# EAGLE library part DSPIC33FJ12GP201-I/P (library Microchip_By_element14_Batch_1)
16-bit Digital Signal Controllers
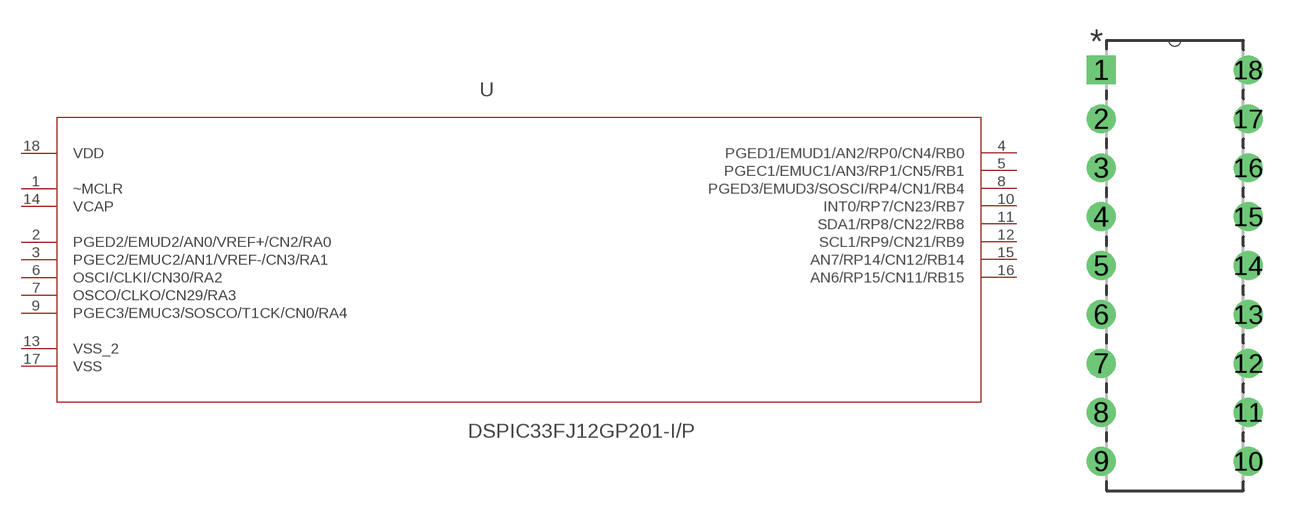
[diagram p368: symbol with the pads of DIP254P762X533-18; footprint DIP254P762X533-18]

Designator prefix -

## DSPIC33FJ12GP201-I/P (DESCRIPTION: DSC, 16BIT, 12KB, 40MHZ, 3.6V; MPN: DSPIC33FJ12GP201-I/P; OC_FARNELL: 1439602; OC_NEWARK: 16M5785; PACKAGE: DIP-18; SUPPLIER: Microchip)  [DIP254P762X533-18]
1  ~MCLR  in
2  PGED2/EMUD2/AN0/VREF+/CN2/RA0
3  PGEC2/EMUC2/AN1/VREF-/CN3/RA1
4  PGED1/EMUD1/AN2/RP0/CN4/RB0
5  PGEC1/EMUC1/AN3/RP1/CN5/RB1
6  OSCI/CLKI/CN30/RA2
7  OSCO/CLKO/CN29/RA3
8  PGED3/EMUD3/SOSCI/RP4/CN1/RB4
9  PGEC3/EMUC3/SOSCO/T1CK/CN0/RA4
10  INT0/RP7/CN23/RB7
11  SDA1/RP8/CN22/RB8
12  SCL1/RP9/CN21/RB9
13  VSS_2  pwr
14  VCAP  pwr
15  AN7/RP14/CN12/RB14
16  AN6/RP15/CN11/RB15
17  VSS  pwr
18  VDD  pwr

## Footprint DIP254P762X533-18 (pad centres in mm)
drill 0.991 square: 1 -7.62,20.32
drill 0.991: 2 -7.62,17.78; 3 -7.62,15.24; 4 -7.62,12.7; 5 -7.62,10.16; 6 -7.62,7.62; 7 -7.62,5.08; 8 -7.62,2.54; 9 -7.62,0; 10 0,0; 11 0,2.54; 12 0,5.08; 13 0,7.62; 14 0,10.16; 15 0,12.7; 16 0,15.24; 17 0,17.78; 18 0,20.32